# EAGLE library part 10129383-920001ALF (library SamacSys_Parts)
EconoStik, Board to Board connector, Unshrouded Vertical Header, Surface Mount, Double Row, 20 Positions, 2.54 mm (0.100in) Pitch. Source: Datasheet <https://cdn.amphenol-cs.com/media/wysiwyg/files/documentation/datasheet/boardwiretoboard/bwb_econostik_254headers.pdf>
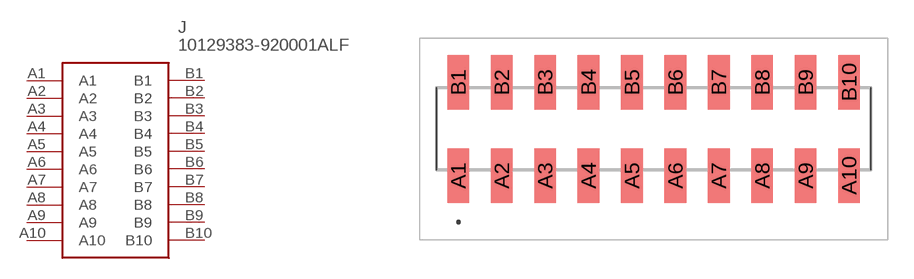
[diagram p133: symbol with the pads of 10129383920001ALF; footprint 10129383920001ALF]

Designator prefix J

## 10129383-920001ALF (DESCRIPTION: EconoStik, Board to Board connector, Unshrouded Vertical Header, Surface Mount, Double Row, 20 Positions, 2.54 mm (0.100in) Pitch.; HEIGHT: 9.85mm; MANUFACTURER_NAME: Amphenol; MANUFACTURER_PART_NUMBER: 10129383-920001ALF; MOUSER_PART_NUMBER: 649-1012938392001ALF; MOUSER_PRICE-STOCK: https://www.mouser.co.uk/ProductDetail/Amphenol-FCI/10129383-920001ALF?qs=0lQeLiL1qyYBAdDlPKGYtg%3D%3D)  [10129383920001ALF]
A1  A1
A2  A2
A3  A3
A4  A4
A5  A5
A6  A6
A7  A7
A8  A8
A9  A9
A10  A10
B1  B1
B2  B2
B3  B3
B4  B4
B5  B5
B6  B6
B7  B7
B8  B8
B9  B9
B10  B10

## Footprint 10129383920001ALF (pad centres in mm)
10129383-920001ALF-5
smd 1.27 x 3.18: A1 -11.43,-2.73; A2 -8.89,-2.73; A3 -6.35,-2.73; A4 -3.81,-2.73; A5 -1.27,-2.73; A6 1.27,-2.73; A7 3.81,-2.73; A8 6.35,-2.73; A9 8.89,-2.73; A10 11.43,-2.73; B1 -11.43,2.73; B2 -8.89,2.73; B3 -6.35,2.73; B4 -3.81,2.73; B5 -1.27,2.73; B6 1.27,2.73; B7 3.81,2.73; B8 6.35,2.73; B9 8.89,2.73; B10 11.43,2.73